# Altium footprint library PaivacbLib1.PcbLib: 39 footprints (part 2 of 3)
Each footprint in its own frame and in the unit in brackets; x right, y up, seen from the top. Pads: shape width x height; smd on the part's side, far side on the other; paste and mask are expansions set on the pad; w line width, h text height; cw(c..) or ccw(c..) is an arc to the next point about the centre after c.
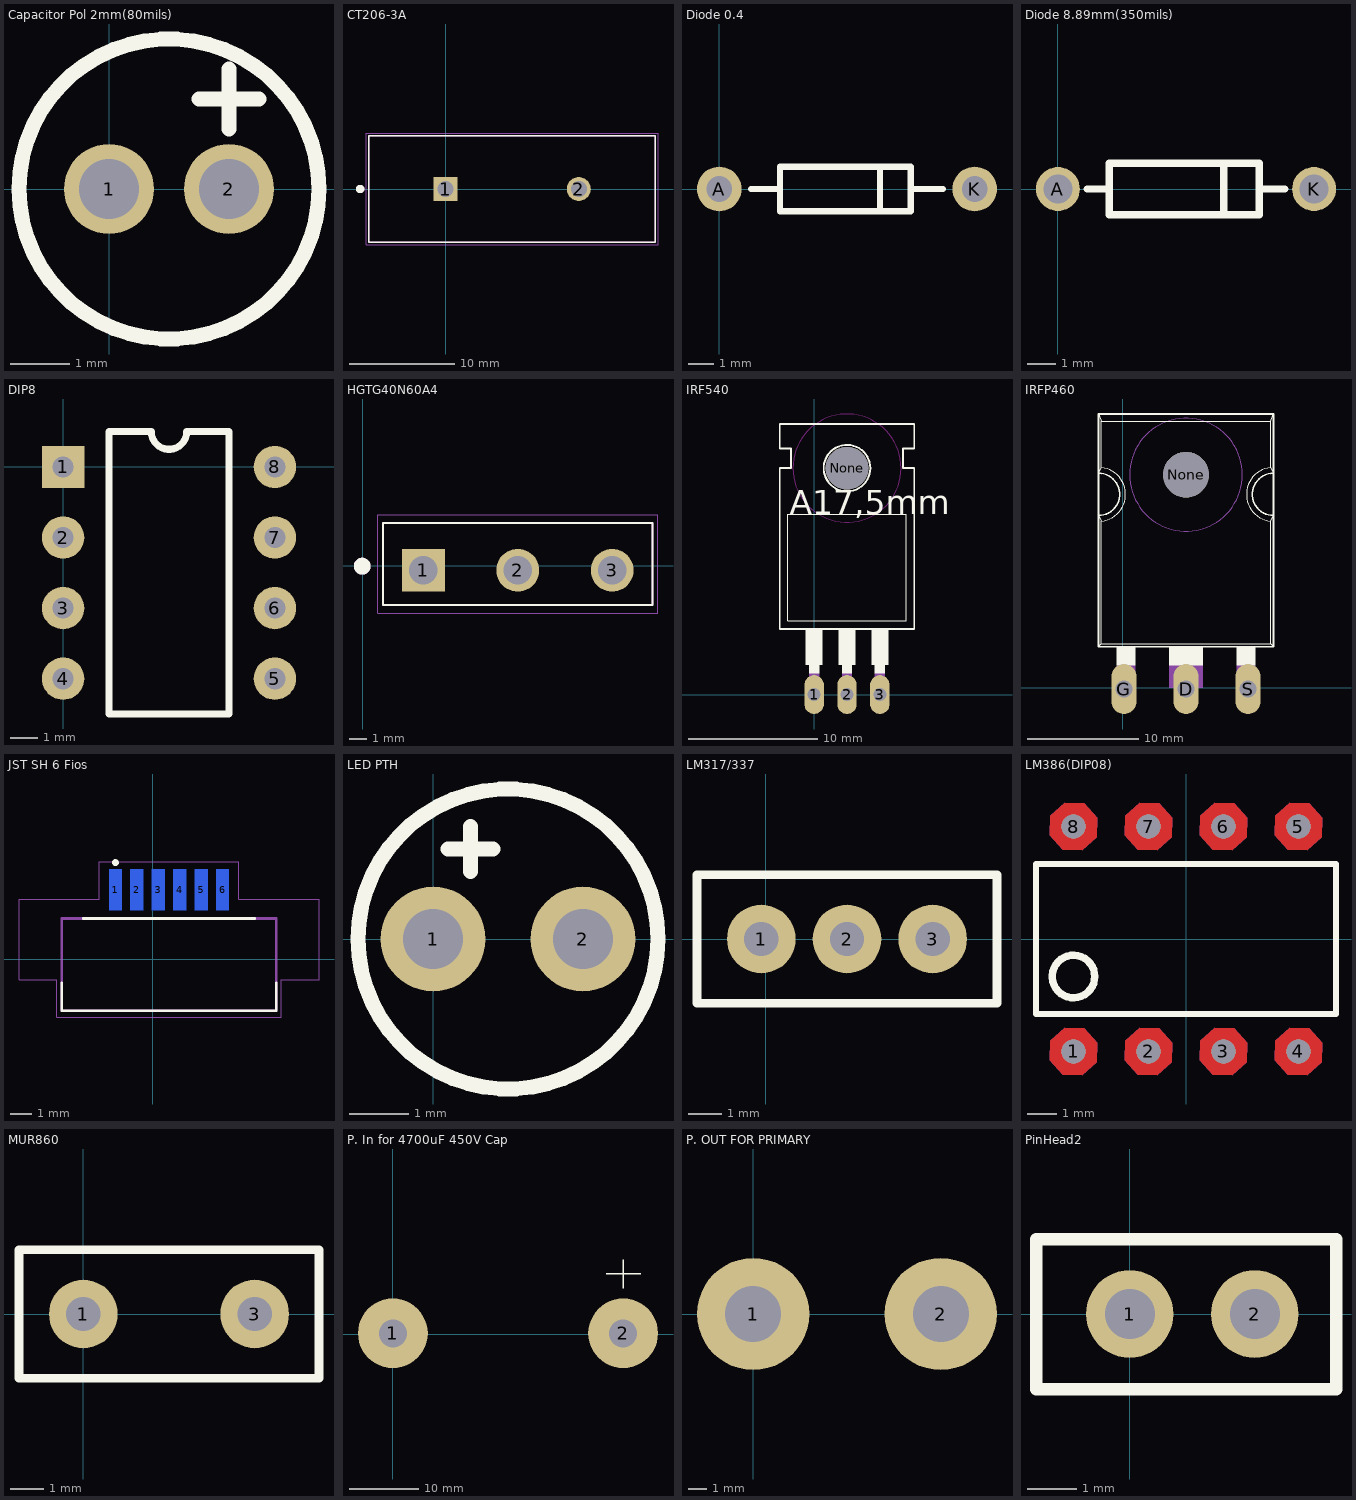
[diagram p1: the footprints below, top view; thin cyan lines are the x and y axes]

## Capacitor Pol 2mm(80mils) [mil]
pads (2):
  round 60 hole 40: 1(0,0) 2(80,0)
Top Overlay:
  circle w10: c40,0 r100
  lines w10: 60,60 100,60 ; 80,40 80,80

## CT206-3A [mil]
pads (2):
  rect 90x90 hole 60: 1(0,0)
  round 90 hole 60: 2(500,0)
Top Overlay:
  circle w15.75: c-320.87,0 r7.87
  lines w5: -287.5,-200 787.5,-200 787.5,200 -287.5,200 -287.5,-200
Mechanical 13:
  circle w15.75: c-320.87,0 r7.87
  lines w5: -287.5,-200 787.5,-200 787.5,200 -287.5,200 -287.5,-200
Mechanical 15:
  lines w1.97: -297.34,-209.84 797.34,-209.84 797.34,209.84 -297.34,209.84 -297.34,-209.84

## Diode 0.4 [mil]
pads (2):
  round 70 hole 40: A(0,0) K(400,0)
Top Overlay:
  lines w10: 50,0 95,0 ; 251.67,-35 251.67,35 ; 305,0 350,0 ; 95,0 95,-35 177.5,-35 222.5,-35 300,-35 300,35 95,35 95,0

## Diode 8.89mm(350mils) [mil]
pads (2):
  round 60 hole 40: A(0,0) K(350,0)
Top Overlay:
  lines w10: 40,0 70,0 ; 226.67,-35 226.67,35 ; 280,0 310,0 ; 70,0 70,-35 152.5,-35 197.5,-35 275,-35 275,35 70,35 70,0

## DIP8 [mil]
pads (8):
  rect 60x60 hole 30: 1(0,0)
  round 60 hole 30: 2(0,-100) 3(0,-200) 4(0,-300) 5(300,-300) 6(300,-200) 7(300,-100) 8(300,0)
Top Overlay:
  lines w10: 65,-350 65,50 125,50 ccw(c150,50) 175,50 235,50 235,-350 65,-350

## HGTG40N60A4 [mm]
pads (3):
  rect 2.52x2.52 hole 1.68: 1(3.556,-0.254)
  round 2.52 hole 1.68: 2(9.116,-0.254) 3(14.676,-0.254)
Top Overlay:
  circle w0.5: c-0.044,-0.014 r0.25
  lines w0.127: 1.176,-2.294 17.056,-2.294 17.056,2.526 1.176,2.526 1.176,-2.294
Mechanical 4:
  circle w0.5: c-0.044,-0.014 r0.25
  circle w0.5: c-0.044,-0.014 r0.25
  lines w0.127: 1.176,-2.294 17.056,-2.294 ; 1.176,-2.294 1.176,2.526 ; 1.176,-2.294 17.056,-2.294 ; 1.176,-2.294 1.176,2.526 ; 1.176,2.526 17.056,2.526 ; 1.176,2.526 17.056,2.526 ; 17.056,-2.294 17.056,2.526 ; 17.056,-2.294 17.056,2.526
Mechanical 16:
  lines w0.05: 0.856,-2.784 17.376,-2.784 17.376,3.016 0.856,3.016 0.856,-2.784

## IRF540 [mil]
pads (4):
  oval 59.37x118.74 hole 39.37: 1(0,0) 2(100,0) 3(200,0)
  round 130 hole 130 unplated: None(100,690)
Top Overlay:
  circle w6: c100,690 r71
  region: 185,90 215,90 215,65 185,65
  region: 85,90 115,90 115,65 85,65
  region: -15,90 15,90 15,65 -15,65
  region: -25,200 25,200 25,90 -25,90
  region: 75,200 125,200 125,90 75,90
  region: 175,200 225,200 225,90 175,90
  lines w2: -80,225 280,225 280,550 -80,550 -80,225
  lines w6: -105,200 305,200 305,690 270,690 270,750 305,750 305,825 -105,825 -105,750 -70,750 -70,690 -105,690 -105,200
  text "A17,5mm" at -75,550.16 h73.82
Keep-Out Layer:
  circle w0: c100,690 r165
  circle w0: c100,690 r165
  circle w0: c100,690 r165
  circle w0: c100,690 r165
  circle w0: c100,690 r165
  circle w0: c100,690 r165
Mechanical 4:
  region: -15,65 15,65 15,-10 -15,-10
  region: 85,65 115,65 115,-10 85,-10
  region: 185,65 215,65 215,-10 185,-10
  region: -15,65 15,65 15,-10 -15,-10
  region: 85,65 115,65 115,-10 85,-10
  region: 185,65 215,65 215,-10 185,-10
  text "1" at -25,240.16 h73.82
  text "2" at 75,240.16 h73.82
  text "3" at 175,240.16 h73.82
  text "1" at -25,240.16 h73.82
  text "2" at 75,240.16 h73.82
  text "3" at 175,240.16 h73.82

## IRFP460 [mil]
pads (4):
  oval 88.5x177 hole 59: D(225,-5) G(5,-5) S(445,-5)
  round 162 hole 162 unplated: None(225,755)
Top Overlay:
  circle w6: c225,755 r75
  region: 405.62,145 470,145 470,78.91 405.62,78.91
  region: 164.84,145 285,145 285,79.16 164.84,79.16
  region: -20.39,145 45,145 45,79.49 -20.39,79.49
  lines w2: -85,145 -75,155 ; -85,610 -75,590 ; -85,760 -75,780 ; -85,970 -75,945 ; 535,145 525,155 ; 535,610 525,590 ; 535,760 525,780 ; 535,970 525,945 ; -75,155 525,155 ; -75,155 -75,590 ; -75.01,590 ccw(c-85,685) -75.01,780 ; -75,780 -75,945 ; -75,945 525,945 ; 525,155 525,590 ; 525.01,590 cw(c535,685) 525.01,780 ; 525,780 525,945
  lines w6: -85,610 ccw(c-85,685) -85,760 ; -85,610 -85,145 535,145 535,610 ; -85,610 -85,760 ; -85,760 -85,970 535,970 535,760 ; 535,610 cw(c535,685) 535,760 ; 535,610 535,760
Mechanical 1:
  circle w0: c225,755 r200
  circle w0: c225,755 r200
  region: -20.34,80 45,80 45,-0.55 -20.34,-0.55
  region: -20.37,0 30,0 30,-20.63 -20.37,-20.63
  region: 164.9,80 285,80 285,-0.67 164.9,-0.67
  region: 199.99,0 250,0 250,-20.23 199.99,-20.23
  region: 405.46,80 470,80 470,-1.01 405.46,-1.01
  region: 420.31,0 470,0 470,-20.65 420.31,-20.65

## JST SH 6 Fios [mm]
pads (6):
  rect 0.6x1.9 smd far side: 1(-1.738,3.246) 2(-0.738,3.246) 3(0.262,3.246) 4(1.262,3.246) 5(2.262,3.246) 6(3.262,3.246)
Top Overlay:
  circle w0.16: c-1.738,4.51 r0.08
  lines w0.127: -4.238,-1.104 -4.238,-2.404 5.762,-2.404 5.762,-1.104 ; -3.238,1.896 4.762,1.896
Mechanical 1:
  lines w0.05: -6.238,-0.954 -4.488,-0.954 -4.488,-2.704 6.012,-2.704 6.012,-0.954 7.762,-0.954 7.762,2.796 4.012,2.796 4.012,4.546 -2.488,4.546 -2.488,2.796 -6.238,2.796 -6.238,-0.954
  lines w0.127: -4.238,-2.404 -4.238,1.896 5.762,1.896 5.762,-2.404 -4.238,-2.404

## LED PTH [mil]
pads (2):
  round 70 hole 40: 1(0,0) 2(100,0)
Top Overlay:
  circle w10: c50,0 r100.12
  lines w10: 10,60 40,60 ; 25,45 25,75

## LM317/337 [mil]
pads (3):
  round 80 hole 40: 1(-5,0) 2(95,0) 3(195,0)
Top Overlay:
  lines w10: -80,-75 270,-75 270,75 -80,75 -80,-75

## LM386(DIP08) [mil]
pads (8):
  round 32 hole 32: 1(-150,-150) 2(-50,-150) 3(50,-150) 4(150,-150) 5(150,150) 6(50,150) 7(-50,150) 8(-150,150)
Top Layer:
  region: -118.05,161.63 -135.63,180.81 -161.63,181.95 -180.81,164.37 -181.95,138.37 -164.37,119.19 -138.37,118.05 -119.19,135.63
  region: -18.05,161.63 -35.63,180.81 -61.63,181.95 -80.81,164.37 -81.95,138.37 -64.37,119.19 -38.37,118.05 -19.19,135.63
  region: 81.95,161.63 64.37,180.81 38.37,181.95 19.19,164.37 18.05,138.37 35.63,119.19 61.63,118.05 80.81,135.63
  region: 181.95,161.63 164.37,180.81 138.37,181.95 119.19,164.37 118.05,138.37 135.63,119.19 161.63,118.05 180.81,135.63
  region: 181.95,-138.37 164.37,-119.19 138.37,-118.05 119.19,-135.63 118.05,-161.63 135.63,-180.81 161.63,-181.95 180.81,-164.37
  region: 81.95,-138.37 64.37,-119.19 38.37,-118.05 19.19,-135.63 18.05,-161.63 35.63,-180.81 61.63,-181.95 80.81,-164.37
  region: -18.05,-138.37 -35.63,-119.19 -61.63,-118.05 -80.81,-135.63 -81.95,-161.63 -64.37,-180.81 -38.37,-181.95 -19.19,-164.37
  region: -118.05,-138.37 -135.63,-119.19 -161.63,-118.05 -180.81,-135.63 -181.95,-161.63 -164.37,-180.81 -138.37,-181.95 -119.19,-164.37
Bottom Layer:
  region: -118.05,161.63 -135.63,180.81 -161.63,181.95 -180.81,164.37 -181.95,138.37 -164.37,119.19 -138.37,118.05 -119.19,135.63
  region: -18.05,161.63 -35.63,180.81 -61.63,181.95 -80.81,164.37 -81.95,138.37 -64.37,119.19 -38.37,118.05 -19.19,135.63
  region: 81.95,161.63 64.37,180.81 38.37,181.95 19.19,164.37 18.05,138.37 35.63,119.19 61.63,118.05 80.81,135.63
  region: 181.95,161.63 164.37,180.81 138.37,181.95 119.19,164.37 118.05,138.37 135.63,119.19 161.63,118.05 180.81,135.63
  region: 181.95,-138.37 164.37,-119.19 138.37,-118.05 119.19,-135.63 118.05,-161.63 135.63,-180.81 161.63,-181.95 180.81,-164.37
  region: 81.95,-138.37 64.37,-119.19 38.37,-118.05 19.19,-135.63 18.05,-161.63 35.63,-180.81 61.63,-181.95 80.81,-164.37
  region: -18.05,-138.37 -35.63,-119.19 -61.63,-118.05 -80.81,-135.63 -81.95,-161.63 -64.37,-180.81 -38.37,-181.95 -19.19,-164.37
  region: -118.05,-138.37 -135.63,-119.19 -161.63,-118.05 -180.81,-135.63 -181.95,-161.63 -164.37,-180.81 -138.37,-181.95 -119.19,-164.37
Top Overlay:
  circle w10: c-150,-50 r28.28
  lines w8: -200,-40 -200,-60 ; -200,-60 -200,-100 200,-100 200,100 -200,100 -200,-60
Multi-Layer:
  region: -118.05,161.63 -135.63,180.81 -161.63,181.95 -180.81,164.37 -181.95,138.37 -164.37,119.19 -138.37,118.05 -119.19,135.63
  region: -18.05,161.63 -35.63,180.81 -61.63,181.95 -80.81,164.37 -81.95,138.37 -64.37,119.19 -38.37,118.05 -19.19,135.63
  region: 81.95,161.63 64.37,180.81 38.37,181.95 19.19,164.37 18.05,138.37 35.63,119.19 61.63,118.05 80.81,135.63
  region: 181.95,161.63 164.37,180.81 138.37,181.95 119.19,164.37 118.05,138.37 135.63,119.19 161.63,118.05 180.81,135.63
  region: 181.95,-138.37 164.37,-119.19 138.37,-118.05 119.19,-135.63 118.05,-161.63 135.63,-180.81 161.63,-181.95 180.81,-164.37
  region: 81.95,-138.37 64.37,-119.19 38.37,-118.05 19.19,-135.63 18.05,-161.63 35.63,-180.81 61.63,-181.95 80.81,-164.37
  region: -18.05,-138.37 -35.63,-119.19 -61.63,-118.05 -80.81,-135.63 -81.95,-161.63 -64.37,-180.81 -38.37,-181.95 -19.19,-164.37
  region: -118.05,-138.37 -135.63,-119.19 -161.63,-118.05 -180.81,-135.63 -181.95,-161.63 -164.37,-180.81 -138.37,-181.95 -119.19,-164.37

## MUR860 [mil]
pads (2):
  round 80 hole 40: 1(0,0) 3(200,0)
Top Overlay:
  lines w10: -75,-75 -75,75 275,75 275,-75 -75,-75

## P. In for 4700uF 450V Cap [mm]
pads (2):
  round 10 hole 4: 1(0,0.127) 2(33,0.127)
Top Overlay:
  lines w0.2: 30.607,8.636 35.56,8.636 ; 33.02,6.604 33.02,10.668

## P. OUT FOR PRIMARY [mm]
pads (2):
  round 6 hole 3: 1(0,0) 2(10.033,0)

## PinHead2 [mil]
pads (2):
  round 70 hole 40: 1(0,0) 2(100,0)
Top Overlay:
  lines w10: -75,-60 165,-60 165,60 -75,60 -75,-60